# EAGLE library part 48L512T-I/SN (library my-MicrochipTechnology)
SRAM Serial SRAM with Nonvolatile bits, 512K bit SPI
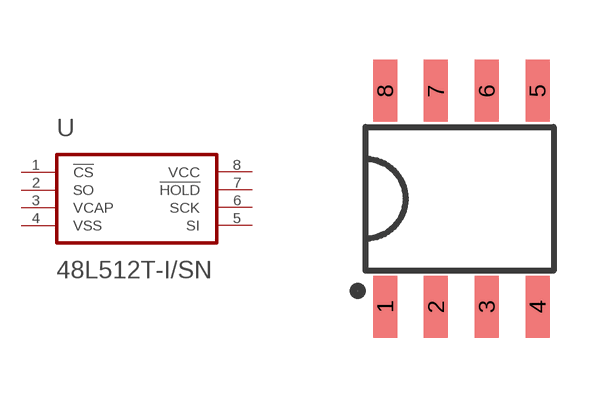
[diagram p3: symbol with the pads of SOIC-8; footprint SOIC-8]

Designator prefix -

## 48L512T-I/SN  [SOIC-8]
1  !CS
2  SO
3  VCAP
4  VSS
5  SI
6  SCK
7  !HOLD
8  VCC

## Footprint SOIC-8 (pad centres in mm)
smd 0.6 x 1.55: 1 -1.91,-2.7; 2 -0.64,-2.7; 3 0.63,-2.7; 4 1.9,-2.7; 5 1.9,2.7; 6 0.63,2.7; 7 -0.64,2.7; 8 -1.91,2.7